# EAGLE library part BUTTONPAD_SINGLE (library Electromechanical)
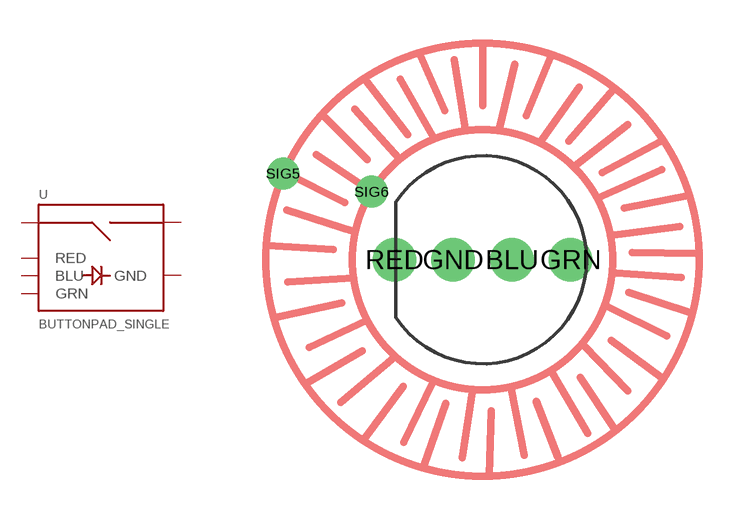
[diagram p1: symbol with the pads of BUTTONPAD_SINGLE; footprint BUTTONPAD_SINGLE]

Designator prefix -

## BUTTONPAD_SINGLE  [BUTTONPAD_SINGLE]
BLU  BLU
GND  GND
GRN  GRN
RED  RED
SIG5  SIG1
SIG6  SIG2

## Footprint BUTTONPAD_SINGLE (pad centres in mm)
drill 1: BLU 1.016,0; GND -1.016,0; GRN 3.048,0; RED -3.048,0
drill 0.6: SIG5 -6.902,2.991; SIG6 -3.84,2.358